# Altium schematic symbol library SCH - MCU - INFINEON XMC - INFINEON XMC1100T016.SchLib: 1 symbol
Pins are listed as number, name and electrical type; pins without a type are passive.

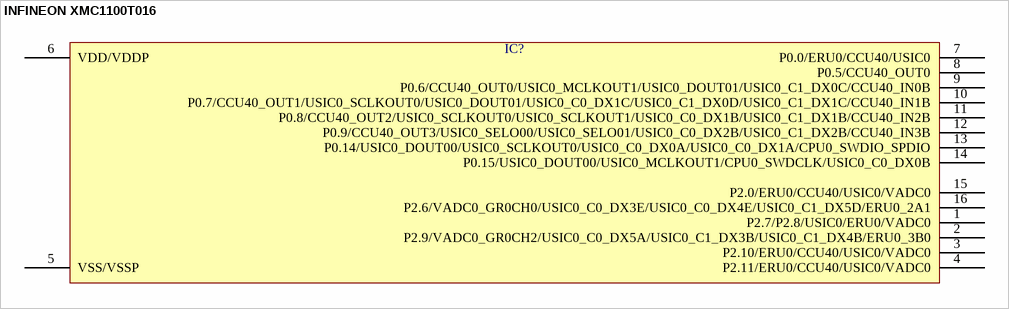
[diagram p0: symbol INFINEON XMC1100T016]

## INFINEON XMC1100T016
designator IC?  (value not drawn)
pins: 1 P2.7/P2.8/USIC0/ERU0/VADC0, 2 P2.9/VADC0_GR0CH2/USIC0_C0_DX5A/USIC0_C1_DX3B/USIC0_C1_DX4B/ERU0_3B0, 3 P2.10/ERU0/CCU40/USIC0/VADC0, 4 P2.11/ERU0/CCU40/USIC0/VADC0, 5 VSS/VSSP, 6 VDD/VDDP, 7 P0.0/ERU0/CCU40/USIC0, 8 P0.5/CCU40_OUT0, 9 P0.6/CCU40_OUT0/USIC0_MCLKOUT1/USIC0_DOUT01/USIC0_C1_DX0C/CCU40_IN0B, 10 P0.7/CCU40_OUT1/USIC0_SCLKOUT0/USIC0_DOUT01/USIC0_C0_DX1C/USIC0_C1_DX0D/USIC0_C1_DX1C/CCU40_IN1B, 11 P0.8/CCU40_OUT2/USIC0_SCLKOUT0/USIC0_SCLKOUT1/USIC0_C0_DX1B/USIC0_C1_DX1B/CCU40_IN2B, 12 P0.9/CCU40_OUT3/USIC0_SELO00/USIC0_SELO01/USIC0_C0_DX2B/USIC0_C1_DX2B/CCU40_IN3B, 13 P0.14/USIC0_DOUT00/USIC0_SCLKOUT0/USIC0_C0_DX0A/USIC0_C0_DX1A/CPU0_SWDIO_SPDIO, 14 P0.15/USIC0_DOUT00/USIC0_MCLKOUT1/CPU0_SWDCLK/USIC0_C0_DX0B, 15 P2.0/ERU0/CCU40/USIC0/VADC0, 16 P2.6/VADC0_GR0CH0/USIC0_C0_DX3E/USIC0_C0_DX4E/USIC0_C1_DX5D/ERU0_2A1